# EAGLE library part MCP3425A0T-E/CH (library MCP3425A0T-E_CH)
Analog-to-Digital Converter
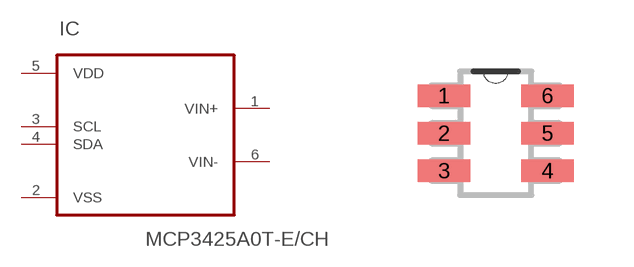
[diagram p0: symbol with the pads of SOT95P270X145-6N; footprint SOT95P270X145-6N]

Designator prefix IC

## MCP3425A0T-E/CH (AVAILABILITY: Unavailable; DESCRIPTION: Single Channel I2C Interface 2.7 V 16-Bit A/D Converter Surface Mount - SOT-23-6; MF: Microchip; MP: MCP3425A0T-E/CH; PACKAGE: SOT-23-6 Microchip; PRICE: None)  [SOT95P270X145-6N]
1  VIN+  in
2  VSS  pas
3  SCL  in
4  SDA
5  VDD  pwr
6  VIN-  in

## Footprint SOT95P270X145-6N (pad centres in mm)
smd 1.321 x 0.559: 1 -1.295,0.94; 2 -1.295,0; 3 -1.295,-0.94; 4 1.295,-0.94; 5 1.295,0; 6 1.295,0.94